# EAGLE library part ESP_WROOM_32_DEV (library Blizzard_Library)
ESP Wroom 32
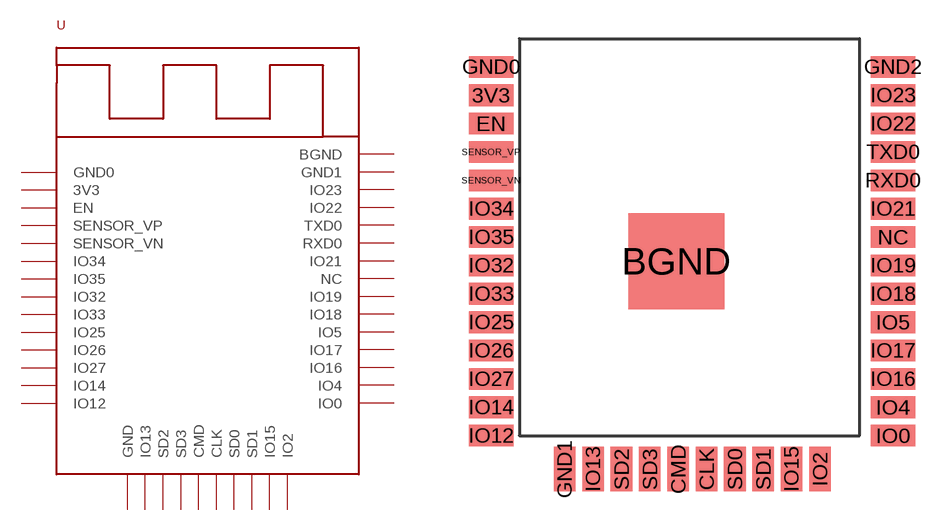
[diagram p15: symbol with the pads of ESP_WROOM_32_PKG; footprint ESP_WROOM_32_PKG]

Designator prefix U

## ESP_WROOM_32_DEV  [ESP_WROOM_32_PKG]
3V3  3V3
BGND  BGND
CLK  CLK
CMD  CMD
EN  EN
GND0  GND
GND1  GND0
GND2  GND1
IO0  IO0
IO2  IO2
IO4  IO4
IO5  IO5
IO12  IO12
IO13  IO13
IO14  IO14
IO15  IO15
IO16  IO16
IO17  IO17
IO18  IO18
IO19  IO19
IO21  IO21
IO22  IO22
IO23  IO23
IO25  IO25
IO26  IO26
IO27  IO27
IO32  IO32
IO33  IO33
IO34  IO34
IO35  IO35
NC  NC
RXD0  RXD0
SD0  SD0
SD1  SD1
SD2  SD2
SD3  SD3
SENSOR_VN  SENSOR_VN
SENSOR_VP  SENSOR_VP
TXD0  TXD0

## Footprint ESP_WROOM_32_PKG (pad centres in mm)
ESP Wroom 32 footprint
smd 2 x 0.97: 3V3 -8.992,6.35; EN -8.992,5.08; GND0 -8.992,7.62; GND2 9.008,7.62; IO0 9.008,-8.89; IO4 9.008,-7.62; IO5 9.008,-3.81; IO12 -8.992,-8.89; IO14 -8.992,-7.62; IO16 9.008,-6.35; IO17 9.008,-5.08; IO18 9.008,-2.54; IO19 9.008,-1.27; IO21 9.008,1.27; IO22 9.008,5.08; IO23 9.008,6.35; IO25 -8.992,-3.81; IO26 -8.992,-5.08; IO27 -8.992,-6.35; IO32 -8.992,-1.27; IO33 -8.992,-2.54; IO34 -8.992,1.27; IO35 -8.992,0; NC 9.008,0; RXD0 9.008,2.54; SENSOR_VN -8.992,2.54; SENSOR_VP -8.992,3.81; TXD0 9.008,3.81
smd 4.3 x 4.3: BGND -0.692,-1.09
smd 0.97 x 2: CLK 0.658,-10.39; CMD -0.612,-10.39; GND1 -5.692,-10.39; IO2 5.738,-10.39; IO13 -4.422,-10.39; IO15 4.468,-10.39; SD0 1.928,-10.39; SD1 3.198,-10.39; SD2 -3.152,-10.39; SD3 -1.882,-10.39